# Altium schematic symbol library JGEJ_V1.0.SCHLIB: 16 symbols
Pins are listed as number, name and electrical type; pins without a type are passive.

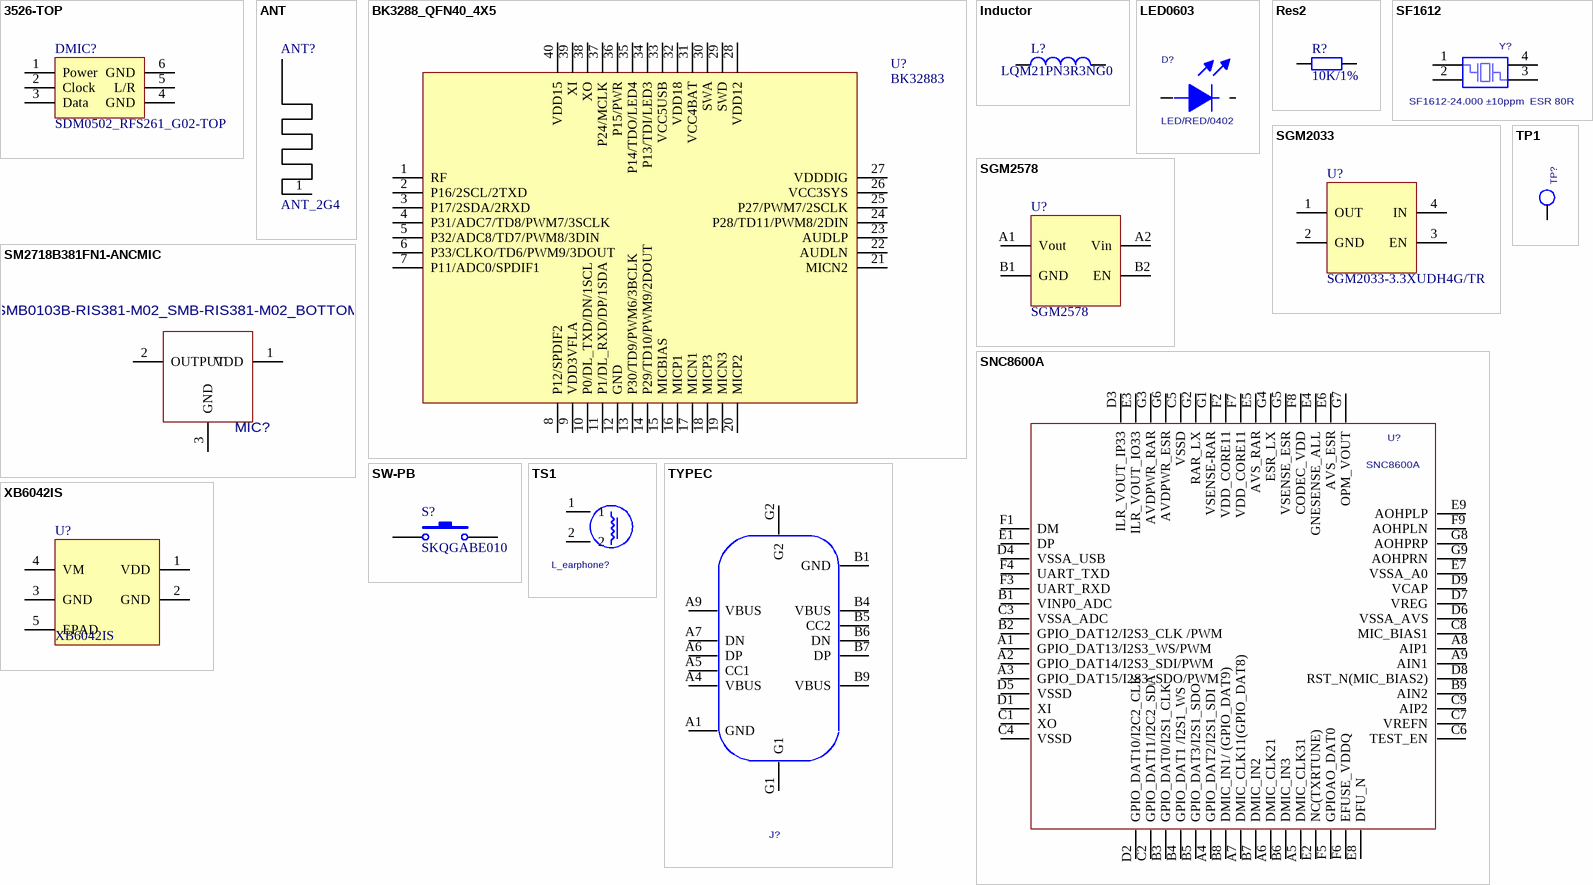
[diagram p0: symbols 3526-TOP to XB6042IS]

## 3526-TOP
designator DMIC?, comment SDM0502_RFS261_G02-TOP
footprint 3526_TOP
pins: 1 Power, 2 Clock, 3 Data, 4 GND, 5 L/R, 6 GND

## ANT
designator ANT?, comment ANT_2G4
footprint PAD
pins: 1

## BK3288_QFN40_4X5
designator U?, comment BK32883
footprint QFN40_4X5 (QFN, 40-Leads, Body 5.00x4.00mm, Pitch 0.35mm, Thermal Pad 3.70x2.80mm, IPC Medium Density)
pins: 1 RF, 2 P16/2SCL/2TXD, 3 P17/2SDA/2RXD, 4 P31/ADC7/TD8/PWM7/3SCLK, 5 P32/ADC8/TD7/PWM8/3DIN, 6 P33/CLKO/TD6/PWM9/3DOUT, 7 P11/ADC0/SPDIF1, 8 P12/SPDIF2, 9 VDD3VFLA, 10 P0/DL_TXD/DN/1SCL, 11 P1/DL_RXD/DP/1SDA, 12 GND, 13 P30/TD9/PWM6/3BCLK, 14 P29/TD10/PWM9/2DOUT, 15 MICBIAS, 16 MICP1, 17 MICN1, 18 MICP3, 19 MICN3, 20 MICP2, 21 MICN2, 22 AUDLN, 23 AUDLP, 24 P28/TD11/PWM8/2DIN, 25 P27/PWM7/2SCLK, 26 VCC3SYS, 27 VDDDIG, 28 VDD12, 29 SWD, 30 SWA, 31 VCC4BAT, 32 VDD18, 33 VCC5USB, 34 P13/TDI/LED3, 35 P14/TDO/LED4, 36 P15/PWR, 37 P24/MCLK, 38 XO, 39 XI, 40 VDD15

## Inductor
designator L?, comment LQM21PN3R3NG0
Inductor; Code_IEC: 1005; Value: 10mH; Published: 8-Jun-2000; LatestRevisionDate: 29-May-2009; LatestRevisionNote: IPC-7351 Footprint Added.; PackageReference: 0402-A; Publisher: Altium Limited; PackageDescription: Chip Inductor; Code_JEITA: 0402
footprint L0805
pins: 1, 2

## LED0603
designator D?, comment LED/RED/0402
PCB DECAL: LED0603; Value: LED/RED/0402
footprint LED0402
pins: 1, 2

## Res2
designator R?, comment 10K/1%
Resistor; Value: 1K; Published: 8-Jun-2000; LatestRevisionDate: 17-Jul-2002; LatestRevisionNote: Re-released for DXP Platform.; PackageReference: AXIAL-0.4; Publisher: Altium Limited; PackageDescription: Axial Device, Thru-Hole; 2 Leads; 0.4 in Pin Spacing
footprint AXIAL-0.4 (Axial Device, Thru-Hole; 2 Leads; 0.4 in Pin Spacing)
simulation model RESISTOR (Resistor)
signal-integrity model Res
footprint R0402
footprint 0201
footprint R0603
footprint R0201
pins: 1, 2

## SF1612
designator Y?  value SF1612-24.000 ±10ppm  ESR 80R  (hidden comment: SF1612)
PCB DECAL: SF1612
footprint SF1612
pins: 1, 2, 3, 4

## SGM2033
designator U?, comment SGM2033-3.3XUDH4G/TR
footprint UTDFN-1X1-4AL
pins: 1 OUT, 2 GND, 3 EN, 4 IN

## SGM2578
designator U?
footprint WLCSP-0.9*0.9-4B
pins: A1 Vout, A2 Vin, B1 GND, B2 EN

## SM2718B381FN1-ANCMIC
designator MIC?  value SMB0103B-RIS381-M02_SMB-RIS381-M02_BOTTOM  (hidden comment: SM2718B381FN1-ANCMIC)
PCB DECAL: SM2718B381FN1-2
footprint SM2718B381FN1-2
pins: 1 VDD, 2 OUTPUT, 3 GND

## SNC8600A
designator U?
PCB DECAL: BGA0405-2; Value: BCHIP
footprint BGA63C50P9X7_500X350X100 (BGA, 63-Leads, Body 5.00x3.50mmx1.00mm, Pitch 0.50mm)
pins: A1 GPIO_DAT13/I2S3_WS/PWM, A2 GPIO_DAT14/I2S3_SDI/PWM, A3 GPIO_DAT15/I2S3_SDO/PWM, A4 GPIO_DAT2/I2S1_SDI, A5 DMIC_CLK31, A6 DMIC_CLK21, A7 DMIC_CLK11(GPIO_DAT8), A8 AIP1, A9 AIN1, B1 VINP0_ADC, B2 GPIO_DAT12/I2S3_CLK /PWM, B3 GPIO_DAT0/I2S1_CLK, B4 GPIO_DAT1 /I2S1_WS, B5 GPIO_DAT3/I2S1_SDO, B6 DMIC_IN3, B7 DMIC_IN2, B8 DMIC_IN1/ (GPIO_DAT9), B9 AIN2, C1 XO, C2 GPIO_DAT11/I2C2_SDA, C3 VSSA_ADC, C4 VSSD, C5 VSSD, C6 TEST_EN, C7 VREFN, C8 MIC_BIAS1, C9 AIP2, D1 XI, D2 GPIO_DAT10/I2C2_CLK, D3 ILR_VOUT_IP33, D4 VSSA_USB, D5 VSSD, D6 VSSA_AVS, D7 VREG, D8 RST_N(MIC_BIAS2), D9 VCAP, E1 DP, E2 NC(TXRTUNE), E3 ILR_VOUT_IO33, E4 GNESENSE_ALL, E5 AVS_RAR, E6 AVS_ESR, E7 VSSA_A0, E8 DFU_N, E9 AOHPLP, F1 DM, F2 VDD_CORE11, F3 UART_RXD, F4 UART_TXD, F5 GPIOAO_DAT0, F6 EFUSE_VDDQ, F7 VDD_CORE11, F8 CODEC_VDD, F9 AOHPLN, G1 VSENSE-RAR, G2 RAR_LX, G3 AVDPWR_RAR, G4 ESR_LX, G5 VSENSE_ESR, G6 AVDPWR_ESR, G7 OPM_VOUT, G8 AOHPRP, G9 AOHPRN

## SW-PB
designator S?, comment SKQGABE010
Switch; Published: 24-Mar-1999; LatestRevisionDate: 17-Jul-2002; LatestRevisionNote: Re-released for DXP Platform.; PackageReference: SPST-2; Publisher: Altium Limited; PackageDescription: Switch; 2 Leads
footprint KEY
footprint KEY-SKRT
footprint TD-302060
pins: 1, 2

## TP1
designator TP?  (value not drawn)
PCB DECAL: TP1
footprint TP1
footprint TP1-1MM
pins: 1

## TS1
designator L_earphone?  (value not drawn)
PCB DECAL: 2PIN-2.54; Value: 1X2PIN-2.54MM-STRAIGHT(母座)
footprint 2PIN-2.54
pins: 1, 2

## TYPEC
designator J?  (value not drawn)
PCB DECAL: DX07VN24WA2
footprint USB-TYPEC - 12
pins: A1 GND, A2 TX1+ hidden, A3 TX1- hidden, A4 VBUS, A5 CC1, A6 DP, A7 DN, A8 SBU1 hidden, A9 VBUS, A10 RX2- hidden, A11 RX2+ hidden, A12 GND hidden, B1 GND, B2 TX2+ hidden, B3 TX2- hidden, B4 VBUS, B5 CC2, B6 DN, B7 DP, B8 SBU2 hidden, B9 VBUS, B10 RX1- hidden, B11 RX1+ hidden, B12 GND hidden, G1, G2, G3 hidden, G4 hidden, G5 hidden, G6 hidden

## XB6042IS
designator U?
footprint UTDFN-1X1-4AL
pins: 1 VDD, 2 GND, 3 GND, 4 VM, 5 EPAD